# EAGLE library part SHHN000A3CL41Z (library regulators-switch-mode)
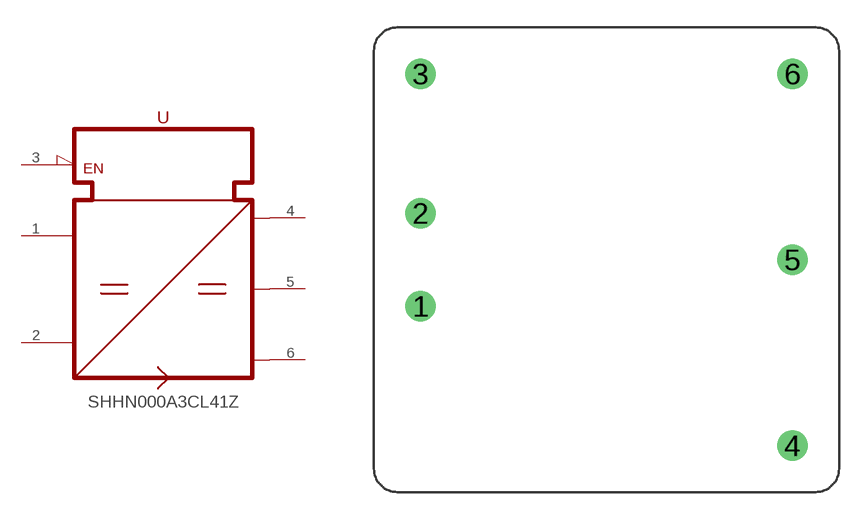
[diagram p2: symbol with the pads of DC/DC-C1; footprint DC/DC-C1]

Designator prefix U

## SHHN000A3CL41Z (MOUSER: 894-SHHN000A3CL41Z)  [DC/DC-C1]
1  IN+  pwr
2  IN-  pwr
3  EN
4  V+  pwr
5  GND  pwr
6  V-  pwr

## Footprint DC/DC-C1 (pad centres in mm)
drill 1.1: 1 -10.16,-2.54; 2 -10.16,2.54; 3 -10.16,10.16; 4 10.16,-10.16; 5 10.16,0; 6 10.16,10.16